# Altium schematic symbol library DIODE.SchLib: 6 symbols
Pins are listed as number, name and electrical type; pins without a type are passive.

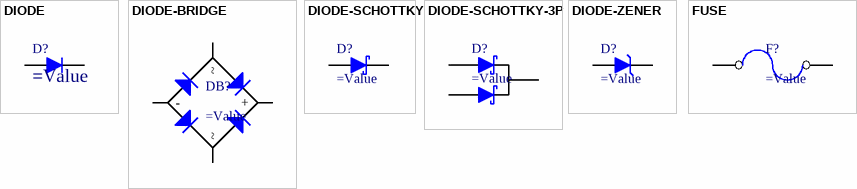
[diagram p0: symbols DIODE to FUSE]

## DIODE
designator D?
=Description
pins: A, C K

## DIODE-BRIDGE
designator DB?
=Description
pins: 1 ~, 2 ~, 3 +, 4 -

## DIODE-SCHOTTKY
designator D?
=Description
pins: A, C K

## DIODE-SCHOTTKY-3P
designator D?
=Description
pins: A1, A2, C

## DIODE-ZENER
designator D?
=Description
pins: A, C

## FUSE
designator F?
=Description
pins: 1, 2